# Altium integrated library MCP6002-I_P.IntLib: 1 symbol
Pins are listed as number, name and electrical type; pins without a type are passive.

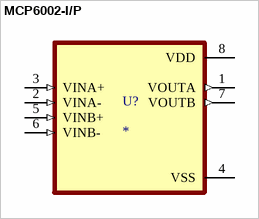
[diagram p0: symbol MCP6002-I/P]

## MCP6002-I/P
designator U?
Microchip ,Dual Op Amp,1MHz CMOS,Rail to Rail,3V,5V,8-Pin PDIP | Microchip Technology Inc. MCP6002-I/P; SnapEDA_Link: https://www.snapeda.com/parts/MCP6002-I/P/Microchip+Technology/view-part/?ref=snap; Package: DIP-8 Microchip; Value: *; MF: Microchip; MP: MCP6002-I/P; Check_prices: https://www.snapeda.com/parts/MCP6002-I/P/Microchip+Technology/view-part/?ref=eda
footprint DIP787W46P254L927H533Q8
pins: 1 VOUTA (out), 2 VINA- (in), 3 VINA+ (in), 4 VSS (power), 5 VINB+ (in), 6 VINB- (in), 7 VOUTB (out), 8 VDD (power)